# EAGLE library part ATTINY85 (library SaintGimp)
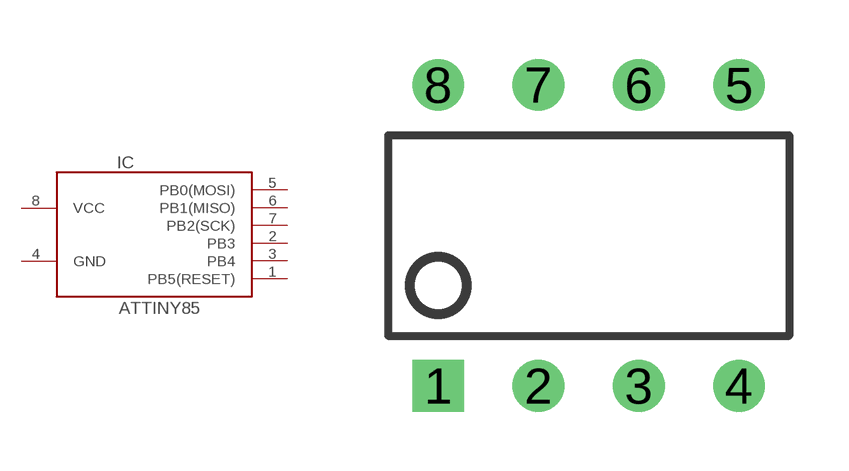
[diagram p10: symbol with the pads of DIP08; footprint DIP08]

Designator prefix IC

## ATTINY85-20PU  [DIP08]
1  PB5(RESET)
2  PB3
3  PB4
4  GND  pas
5  PB0(MOSI)
6  PB1(MISO)
7  PB2(SCK)
8  VCC  pwr

## Footprint DIP08 (pad centres in mm)
Dual In Line
drill 0.8 square: 1 -3.81,-3.81
drill 0.8: 2 -1.27,-3.81; 3 1.27,-3.81; 4 3.81,-3.81; 5 3.81,3.81; 6 1.27,3.81; 7 -1.27,3.81; 8 -3.81,3.81